# Altium schematic symbol library MX_Alps.SchLib: 2 symbols
Pins are listed as number, name and electrical type; pins without a type are passive.

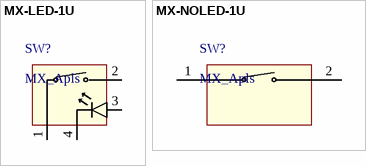
[diagram p0: symbols MX-LED-1U to MX-NOLED-1U]

## MX-LED-1U
designator SW?, comment MX_Apls
1U - MX_Alps Hybrid Footprint; Key: ?
footprint MX-1U
pins: 1, 2, 3, 4

## MX-NOLED-1U
designator SW?, comment MX_Apls
1U - MX_Alps Hybrid Footprint(No LED)
footprint MX-1U-NoLed
pins: 1, 2